# Altium footprint library Revo_connector.PcbLib: 95 footprints (part 5 of 6)
Each footprint in its own frame and in the unit in brackets; x right, y up, seen from the top. Pads: shape width x height; smd on the part's side, far side on the other; paste and mask are expansions set on the pad; w line width, h text height; cw(c..) or ccw(c..) is an arc to the next point about the centre after c.
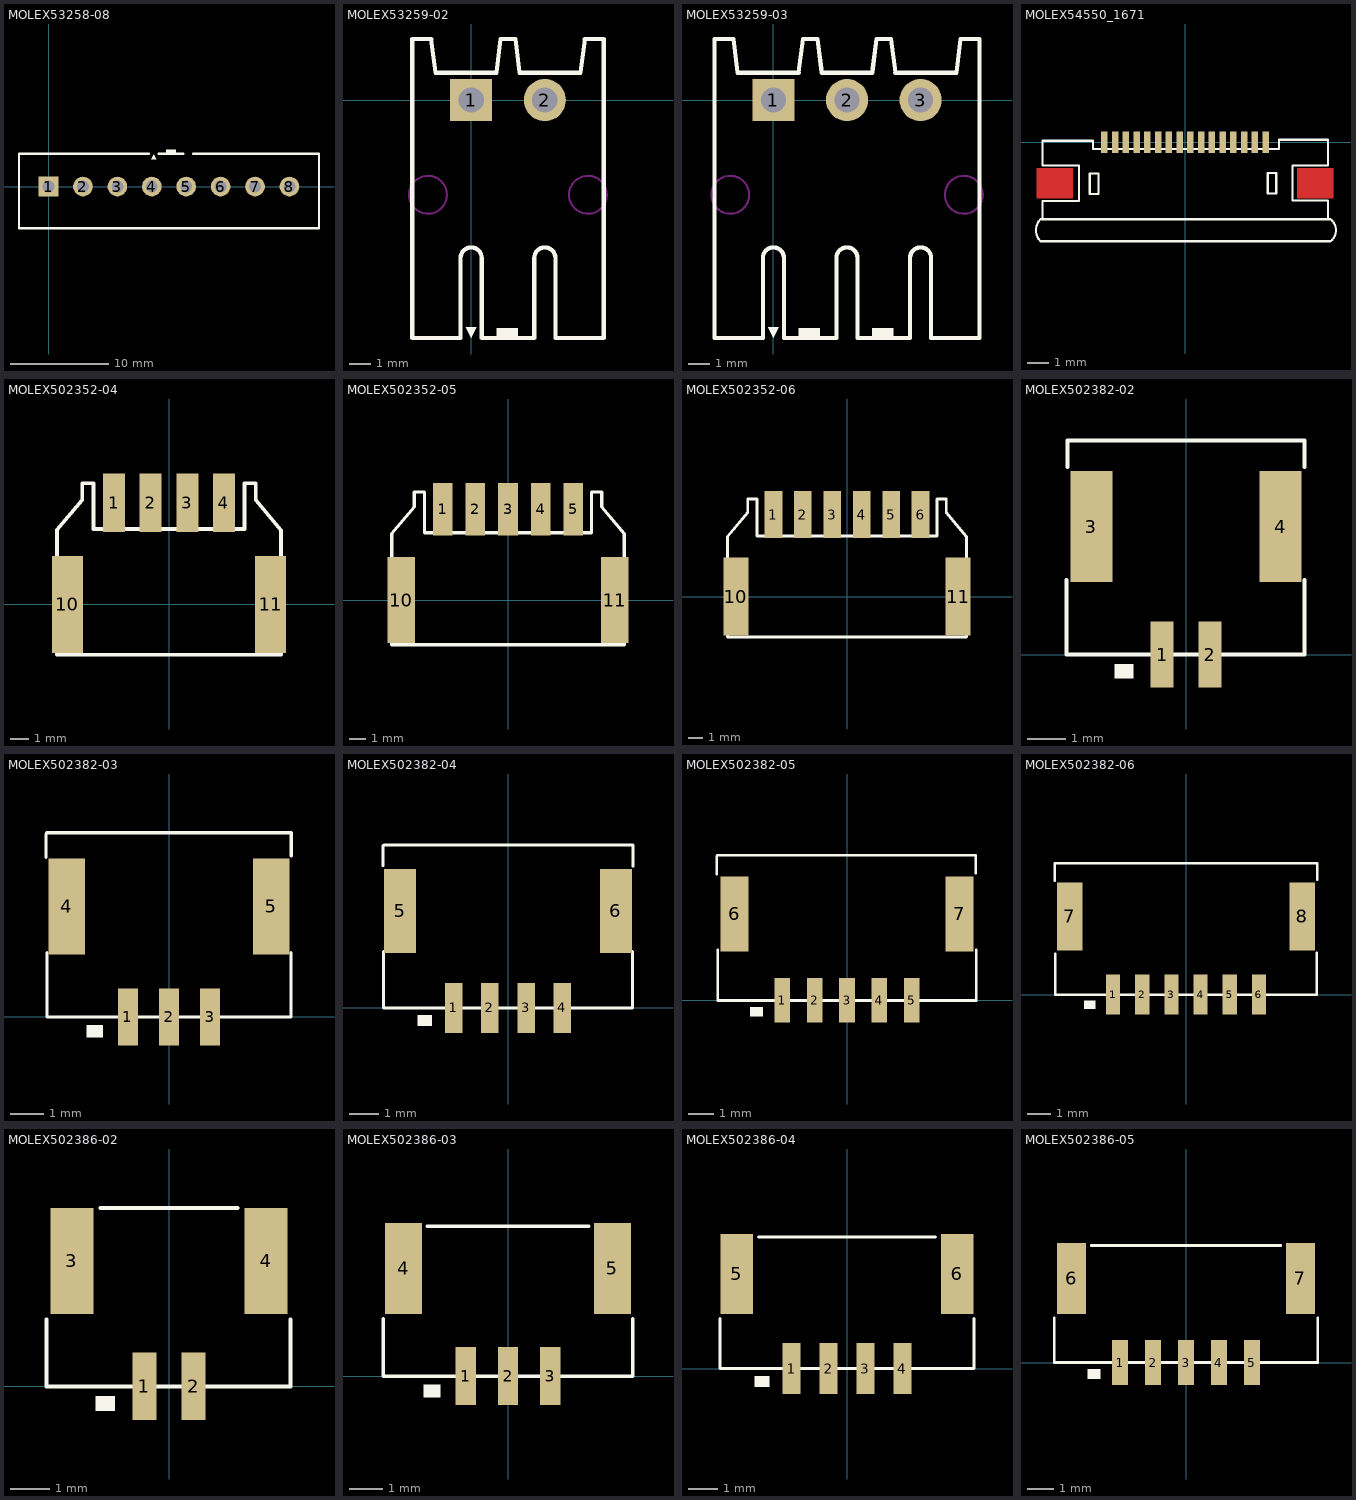
[diagram p4: the footprints below, top view; thin cyan lines are the x and y axes]

## MOLEX53258-08 [mm]
pads (8):
  rect 2x2 hole 1.2: 1(0,0)
  round 2 hole 1.2: 2(3.5,0) 3(7,0) 4(10.5,0) 5(14,0) 6(17.5,0) 7(21,0) 8(24.5,0)
Top Overlay:
  region: 12.96,3.25 12.96,3.75 11.96,3.75 11.96,3.25
  region: 10.46,2.75 10.96,2.75 10.71,3.25
  lines w0.254: -1.5,3.35 0.25,3.35 ; -1.25,3.35 -3,3.35 -3,-4.25 27.5,-4.25 27.5,3.35 25.75,3.35 ; 0,3.35 1.75,3.35 ; 1.71,3.35 4.21,3.35 ; 3.71,3.35 6.21,3.35 ; 5.71,3.35 8.21,3.35 ; 7.71,3.35 10.21,3.35 ; 11.21,3.35 13.71,3.35 ; 14.71,3.35 17.21,3.35 ; 16.75,3.35 18.5,3.35 ; 18.25,3.35 20,3.35 ; 19.75,3.35 21.5,3.35 ; 21.25,3.35 23,3.35 ; 22.75,3.35 24.5,3.35 ; 24.25,3.35 26,3.35

## MOLEX53259-02 [mm]
pads (2):
  rect 2x2 hole 1.2: 1(0,0)
  round 2 hole 1.2: 2(3.5,0)
Top Overlay:
  region: 2.21,-11.35 2.21,-10.85 1.21,-10.85 1.21,-11.35
  region: 0.25,-10.802 -0.25,-10.802 0,-11.302
  lines w0.2: -2.8,-11.3 -0.5,-11.3 -0.5,-7.5 cw(c0,-7.5) 0.5,-7.5 0.5,-11.3 3,-11.3 3,-7.5 cw(c3.5,-7.5) 4,-7.5 4,-11.3 6.3,-11.3 6.3,2.9 5.4,2.9 5.2,1.3 2.3,1.3 2.1,2.9 1.4,2.9 1.2,1.3 -1.7,1.3 -1.9,2.9 -2.8,2.9 -2.8,-11.3
Keep-Out Layer:
  circle w0.1: c-2.05,-4.5 r0.9
  circle w0.1: c5.55,-4.5 r0.9

## MOLEX53259-03 [mm]
pads (3):
  rect 2x2 hole 1.2: 1(0,0)
  round 2 hole 1.2: 2(3.5,0) 3(6.993,0)
Top Overlay:
  region: 2.21,-11.35 2.21,-10.85 1.21,-10.85 1.21,-11.35
  region: 0.25,-10.802 -0.25,-10.802 0,-11.302
  region: 5.703,-11.35 5.703,-10.85 4.703,-10.85 4.703,-11.35
  lines w0.2: 2.993,-11.3 2.993,-7.5 cw(c3.492,-7.5) 3.992,-7.5 3.992,-11.3 6.492,-11.3 6.492,-7.5 cw(c6.993,-7.5) 7.492,-7.5 7.492,-11.3 9.793,-11.3 9.793,2.9 8.892,2.9 8.692,1.3 5.793,1.3 5.593,2.9 4.892,2.9 4.693,1.3 2.3,1.3 2.1,2.9 1.4,2.9 1.2,1.3 -1.7,1.3 -1.9,2.9 -2.8,2.9 -2.8,-11.3 -0.5,-11.3 -0.5,-7.5 cw(c0,-7.5) 0.5,-7.5 0.5,-11.3 3,-11.3
Keep-Out Layer:
  circle w0.1: c-2.05,-4.5 r0.9
  circle w0.1: c9.042,-4.5 r0.9

## MOLEX54550_1671 [mm] "MOLEX54550_1671"
pads (16):
  rect 0.3x1 smd: 1(-3.75,0) 2(-3.25,0) 3(-2.75,0) 4(-2.25,0) 5(-1.75,0) 6(-1.25,0) 7(-0.75,0) 8(-0.25,0) 9(0.25,0) 10(0.75,0) 11(1.25,0) 12(1.75,0) 13(2.25,0) 14(2.75,0) 15(3.25,0) 16(3.75,0)
Top Layer:
  rectangle: -6.902,-2.601 -5.202,-1.201
  rectangle: 5.198,-2.601 6.898,-1.201
Top Overlay:
  lines w0.1: 6.766,-3.572 -6.722,-3.572 ccw(c-6.175,-4.083) -6.722,-4.595 6.766,-4.596 ccw(c6.368,-4.083) 6.766,-3.571 ; -6.622,-3.572 6.641,-3.572 6.641,-2.697 4.992,-2.697 4.992,-1.074 6.641,-1.074 6.641,0.125 4.368,0.125 4.368,-0.3 -4.274,-0.3 -4.274,0.075 -6.622,0.075 -6.622,-1.074 -4.924,-1.074 -4.924,-2.722 -6.622,-2.722 -6.622,-3.572 ; -4.424,-2.398 -4.024,-2.398 -4.024,-1.449 -4.424,-1.449 -4.424,-2.398 ; 3.843,-2.373 4.243,-2.373 4.243,-1.424 3.843,-1.424 3.843,-2.373
3D body "545501671.stp": height 1.2, standoff 0, extent -6.602,-4.701 6.598,0.299

## MOLEX502352-04 [mm]
pads (6):
  rect 1.2x3.2 smd: 1(-3,5.57) 2(-1,5.57) 3(1,5.57) 4(3,5.57)
  rect 1.7x5.3 smd: 10(-5.55,0) 11(5.55,0)
Top Overlay:
  lines w0.2: -6.125,-2.75 -6.125,4.08 -4.75,5.705 -4.75,6.625 -4.125,6.625 -4.125,4.125 4.125,4.125 4.125,6.625 4.75,6.625 4.75,5.702 6.125,4.061 6.125,-2.75 -6.125,-2.75
3D body "5023520400.stp": height 6.46, standoff 0.06, extent -6,-2.6 6,6.8

## MOLEX502352-05 [mm]
pads (7):
  rect 1.2x3.2 smd: 1(-4,5.57) 2(-2,5.57) 3(0,5.57) 4(2,5.57) 5(4,5.57)
  rect 1.7x5.3 smd: 10(-6.55,0) 11(6.55,0)
Top Overlay:
  lines w0.2: -7.125,-2.75 -7.125,4.08 -5.75,5.705 -5.75,6.625 -5.125,6.625 -5.125,4.125 5.125,4.125 5.125,6.625 5.75,6.625 5.75,5.702 7.125,4.061 7.125,-2.75 -7.125,-2.75
3D body "5023520500.stp": height 6.35, standoff -0.05, extent -7,-2.75 7,6.65

## MOLEX502352-06 [mm]
pads (8):
  rect 1.2x3.2 smd: 1(-5,5.57) 2(-3,5.57) 3(-1,5.57) 4(1,5.57) 5(3,5.57) 6(5,5.57)
  rect 1.7x5.3 smd: 10(-7.55,0) 11(7.55,0)
Top Overlay:
  lines w0.2: -8.125,-2.75 8.125,-2.75 8.125,4.061 6.75,5.702 6.75,6.625 6.125,6.625 6.125,4.125 -6.125,4.125 -6.125,6.625 -6.75,6.625 -6.75,5.705 -8.125,4.08 -8.125,-2.75
3D body "5023520600.stp": height 6.46, standoff 0.06, extent -8,-2.725 8,6.675

## MOLEX502382-02 [mm]
pads (4):
  rect 0.605x1.72 smd: 1(-0.625,0) 2(0.625,0)
  rect 1.1x2.9 smd: 3(-2.475,3.35) 4(2.475,3.35)
Top Overlay:
  rectangle: -1.875,-0.625 -1.375,-0.25
  lines w0.1: -3.125,1.95 -3.125,0 3.1,0 3.1,1.95 ; -3.1,4.9 -3.1,5.6 3.1,5.6 3.1,4.9

## MOLEX502382-03 [mm]
pads (5):
  rect 0.605x1.72 smd: 1(-1.25,0) 2(0,0) 3(1.25,0)
  rect 1.1x2.9 smd: 4(-3.1,3.35) 5(3.1,3.35)
Top Overlay:
  rectangle: -2.5,-0.625 -2,-0.25
  lines w0.1: -3.734,4.837 -3.734,5.537 ; -3.717,5.588 3.683,5.588 ; -3.7,1.95 -3.7,0 3.7,0 3.7,1.95 ; 3.708,4.888 3.708,5.588

## MOLEX502382-04 [mm]
pads (6):
  rect 0.605x1.72 smd: 1(-1.875,0) 2(-0.625,0) 3(0.625,0) 4(1.875,0)
  rect 1.1x2.9 smd: 5(-3.725,3.35) 6(3.725,3.35)
Top Overlay:
  rectangle: -3.125,-0.625 -2.625,-0.25
  lines w0.1: -4.318,4.902 -4.318,5.602 ; -4.3,1.95 -4.3,0 4.3,0 4.3,1.95 ; -4.282,5.613 4.318,5.613 ; 4.318,4.888 4.318,5.588

## MOLEX502382-05 [mm]
pads (7):
  rect 0.605x1.72 smd: 1(-2.5,0) 2(-1.25,0) 3(0,0) 4(1.25,0) 5(2.5,0)
  rect 1.1x2.9 smd: 6(-4.35,3.35) 7(4.35,3.35)
Top Overlay:
  rectangle: -3.75,-0.625 -3.25,-0.25
  lines w0.1: -5.029,4.877 -5.029,5.577 ; -5.022,5.613 4.978,5.613 4.978,4.913 ; -5,1.95 -5,0 5,0 5,1.95

## MOLEX502382-06 [mm]
pads (8):
  rect 0.605x1.72 smd: 1(-3.125,0) 2(-1.875,0) 3(-0.625,0) 4(0.625,0) 5(1.875,0) 6(3.125,0)
  rect 1.1x2.9 smd: 7(-4.975,3.35) 8(4.975,3.35)
Top Overlay:
  rectangle: -4.375,-0.625 -3.875,-0.25
  lines w0.1: -5.625,4.875 -5.625,5.575 ; -5.625,5.625 5.575,5.625 ; -5.6,1.753 -5.6,0 5.6,0 5.6,1.803 ; 5.625,4.925 5.625,5.625

## MOLEX502386-02 [mm]
pads (4):
  rect 0.605x1.72 smd: 1(-0.625,0) 2(0.625,0)
  rect 1.1x2.7 smd: 3(-2.475,3.2) 4(2.475,3.2)
Top Overlay:
  rectangle: -1.875,-0.625 -1.375,-0.25
  lines w0.1: -3.125,1.7 -3.125,0 3.1,0 3.1,1.7 ; -1.75,4.55 1.75,4.55

## MOLEX502386-03 [mm]
pads (5):
  rect 0.605x1.72 smd: 1(-1.25,0) 2(0,0) 3(1.25,0)
  rect 1.1x2.7 smd: 4(-3.1,3.2) 5(3.1,3.2)
Top Overlay:
  rectangle: -2.5,-0.625 -2,-0.25
  lines w0.1: -3.7,1.7 -3.7,0 3.7,0 3.7,1.7 ; -2.4,4.45 2.4,4.45

## MOLEX502386-04 [mm]
pads (6):
  rect 0.605x1.72 smd: 1(-1.875,0) 2(-0.625,0) 3(0.625,0) 4(1.875,0)
  rect 1.1x2.7 smd: 5(-3.725,3.2) 6(3.725,3.2)
Top Overlay:
  rectangle: -3.125,-0.625 -2.625,-0.25
  lines w0.1: -4.3,1.7 -4.3,0 4.3,0 4.3,1.7 ; -3,4.45 3,4.45

## MOLEX502386-05 [mm]
pads (7):
  rect 0.605x1.72 smd: 1(-2.5,0) 2(-1.25,0) 3(0,0) 4(1.25,0) 5(2.5,0)
  rect 1.1x2.7 smd: 6(-4.35,3.2) 7(4.35,3.2)
Top Overlay:
  rectangle: -3.75,-0.625 -3.25,-0.25
  lines w0.1: -5,1.7 -5,0 5,0 5,1.7 ; -3.6,4.45 3.6,4.45